# EAGLE library part UC_ATSAM4N8A (library fab_new)
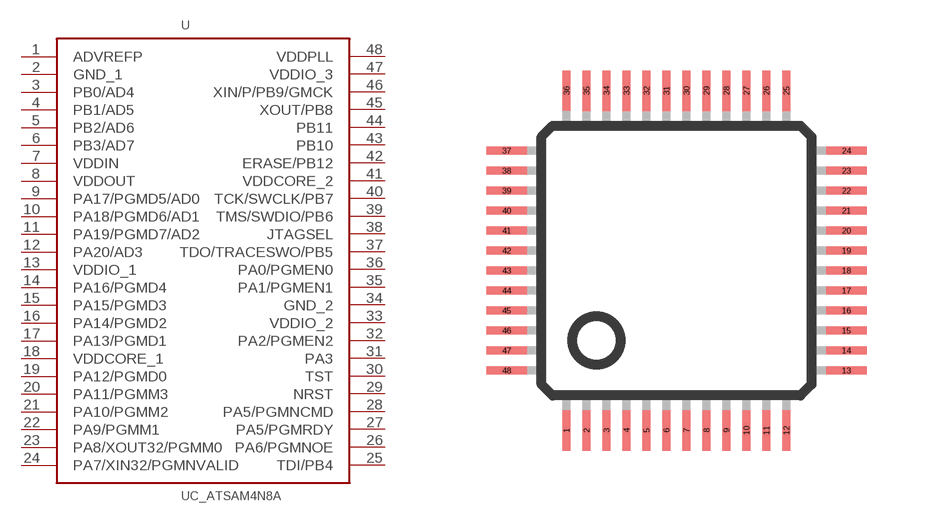
[diagram p17: symbol with the pads of LQFP48; footprint LQFP48]

Designator prefix U

## UC_ATSAM4N8AATSAM4N8A  [LQFP48]
1  ADVREFP
2  GND_1
3  PB0/AD4
4  PB1/AD5
5  PB2/AD6
6  PB3/AD7
7  VDDIN
8  VDDOUT
9  PA17/PGMD5/AD0
10  PA18/PGMD6/AD1
11  PA19/PGMD7/AD2
12  PA20/AD3
13  VDDIO_1
14  PA16/PGMD4
15  PA15/PGMD3
16  PA14/PGMD2
17  PA13/PGMD1
18  VDDCORE_1
19  PA12/PGMD0
20  PA11/PGMM3
21  PA10/PGMM2
22  PA9/PGMM1
23  PA8/XOUT32/PGMM0
24  PA7/XIN32/PGMNVALID
25  TDI/PB4
26  PA6/PGMNOE
27  PA5/PGMRDY
28  PA5/PGMNCMD
29  NRST
30  TST
31  PA3
32  PA2/PGMEN2
33  VDDIO_2
34  GND_2
35  PA1/PGMEN1
36  PA0/PGMEN0
37  TDO/TRACESWO/PB5
38  JTAGSEL
39  TMS/SWDIO/PB6
40  TCK/SWCLK/PB7
41  VDDCORE_2
42  ERASE/PB12
43  PB10
44  PB11
45  XOUT/PB8
46  XIN/P/PB9/GMCK
47  VDDIO_3
48  VDDPLL

## Footprint LQFP48 (pad centres in mm)
48-pin plastic LQFP (FPT-48P-M26) www.fma.fujitsu.com/pdf/e713717.pdf
smd 0.203 x 1.016: 1 -2.75,-4.25; 2 -2.25,-4.25; 3 -1.75,-4.25; 4 -1.25,-4.25; 5 -0.75,-4.25; 6 -0.25,-4.25; 7 0.25,-4.25; 8 0.75,-4.25; 9 1.25,-4.25; 10 1.75,-4.25; 11 2.25,-4.25; 12 2.75,-4.25; 25 2.75,4.25; 26 2.25,4.25; 27 1.75,4.25; 28 1.25,4.25; 29 0.75,4.25; 30 0.25,4.25; 31 -0.25,4.25; 32 -0.75,4.25; 33 -1.25,4.25; 34 -1.75,4.25; 35 -2.25,4.25
smd 1.016 x 0.203: 13 4.25,-2.75; 14 4.25,-2.25; 15 4.25,-1.75; 16 4.25,-1.25; 17 4.25,-0.75; 18 4.25,-0.25; 19 4.25,0.25; 20 4.25,0.75; 21 4.25,1.25; 22 4.25,1.75; 23 4.25,2.25; 24 4.25,2.75; 37 -4.25,2.75; 38 -4.25,2.25; 39 -4.25,1.75; 40 -4.25,1.25; 41 -4.25,0.75; 42 -4.25,0.25; 43 -4.25,-0.25; 44 -4.25,-0.75; 45 -4.25,-1.25; 46 -4.25,-1.75; 47 -4.25,-2.25; 48 -4.25,-2.75
smd 0.203 x 1: 36 -2.75,4.25